# EAGLE library part LTC2057 (library analog_2020)
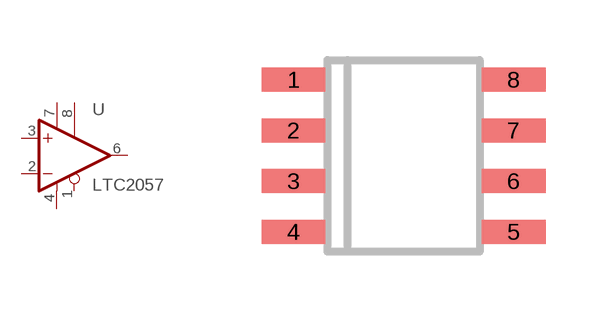
[diagram p6: symbol with the pads of SOIC-08; footprint SOIC-08]

Designator prefix U

## LTC2057  [SOIC-08]
1  SD  pas
2  -IN  in
3  +IN  in
4  V-  pwr
6  OUT  out
7  V+  pwr
8  SDCOM  pas

## Footprint SOIC-08 (pad centres in mm)
smd 1.6 x 0.6: 1 -2.75,1.905; 2 -2.75,0.635; 3 -2.75,-0.635; 4 -2.75,-1.905; 5 2.75,-1.905; 6 2.75,-0.635; 7 2.75,0.635; 8 2.75,1.905